# Altium schematic symbol library AOZ_1280.SchLib: 1 symbol
Pins are listed as number, name and electrical type; pins without a type are passive.

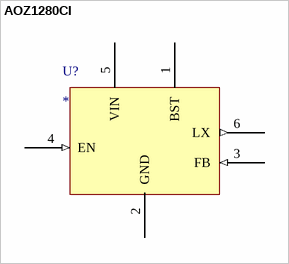
[diagram p0: symbol AOZ1280CI]

## AOZ1280CI
designator U?
1.5MHz Switching Regulator
pins: 1 BST (power), 2 GND (power), 3 FB (in), 4 EN (in), 5 VIN (power), 6 LX (out)